# Altium footprint library SLP50P.PcbLib: 1 footprints
Each footprint in its own frame and in the unit in brackets; x right, y up, seen from the top. Pads: shape width x height; smd on the part's side, far side on the other; paste and mask are expansions set on the pad; w line width, h text height; cw(c..) or ccw(c..) is an arc to the next point about the centre after c.
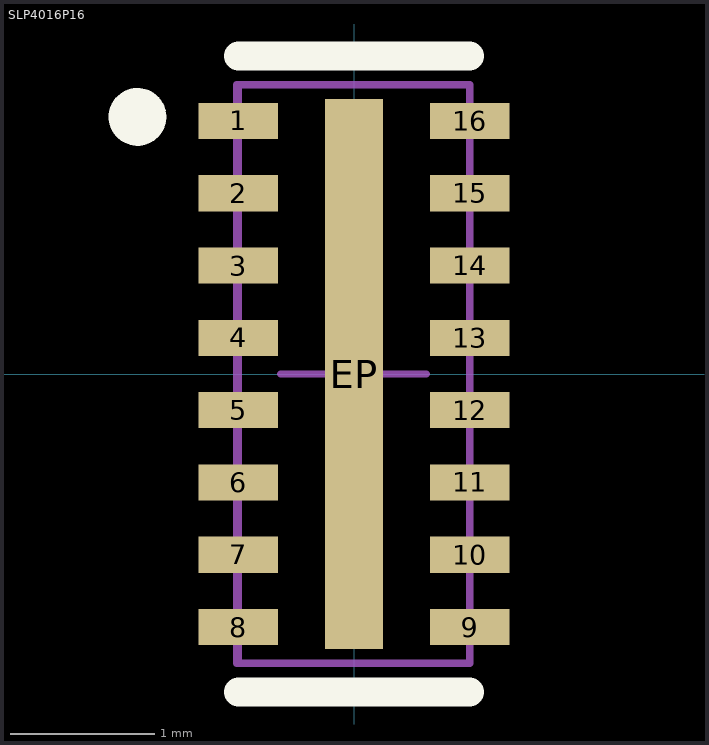
[diagram p0: the footprint, top view; thin cyan lines are the x and y axes]

## SLP4016P16 [mm]
pads (17):
  rect 0.55x0.25 smd: 1(-0.8,1.75) 2(-0.8,1.25) 3(-0.8,0.75) 4(-0.8,0.25) 5(-0.8,-0.25) 6(-0.8,-0.75) 7(-0.8,-1.25) 8(-0.8,-1.75) 9(0.8,-1.75) 10(0.8,-1.25) 11(0.8,-0.75) 12(0.8,-0.25) 13(0.8,0.25) 14(0.8,0.75) 15(0.8,1.25) 16(0.8,1.75)
  rect 0.4x3.8 smd: EP(0,0)
Top Overlay:
  circle w0.2: c-1.497,1.778 r0.1
  lines w0.2: -0.8,-2.2 0.8,-2.2 ; -0.8,2.2 0.8,2.2
Mechanical 13:
  lines w0.05: -0.81,-2 0.8,-2 0.8,2 -0.81,2 -0.81,-2
Mechanical 15:
  lines w0.05: -0.508,0 0.5,0 ; 0,-0.5 0,0.5 ; -0.8,-2 0.8,-2 0.8,2 -0.8,2 -0.8,-2
3D body: height 0.63, standoff 0.05, extent -0.81,-2 0.8,2